# Altium integrated library Altium_WE-CHSA (rev22d).IntLib: 54 symbols (part 1 of 2)
Pins are listed as number, name and electrical type; pins without a type are passive.

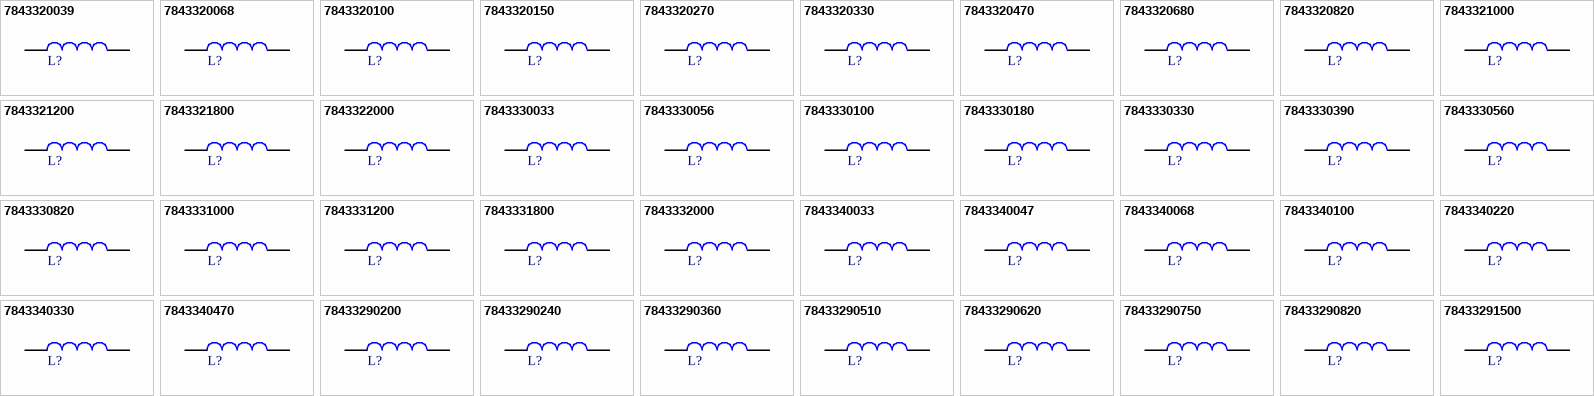
[diagram p0: symbols 7843320039 to 78433291500]

## 7843320039
designator L?, comment 0.39µH, 28A  (value not drawn)
WE-CHSA SMT High Current Inductor, size 1212, 0.39µH, 28A, 1.65mΩ; Manufacturer Part Number: 7843320039; Manufacturer: Wurth Elektronik; Case/Size Code: 1212; DC Resistance: 1.35mΩ; Inductance Tolerance: 20%; Saturation Current: 57A; Self Resonant Frequency: 100MHz; Category: Single Coil Power Inductors; Match Code: WE-CHSA; ComponentLink1Description: Website Link; ComponentLink1URL: https://www.we-online.com/redexpert/article/7843320039?ad; ComponentLink2Description: Datasheet Link; ComponentLink2URL: https://www.we-online.com/redexpert/spec/7843320039?ad; Mount: Surface Mount; Operating Temperature Max: 150°C; Operating Temperature Min: -55°C; Packaging: Tape and Reel; Length: 12.2mm; Width: 12.2mm; Height: 11.75mm; Automotive: Yes; DC Resistance Max: 1.65mΩ; Inductance: 0.39µH; Rated Current: 28A
footprint WE-CHSA_1212
simulation model 1212_7843320039_0.39u
pins: 1, 2

## 7843320068
designator L?, comment 0.68µH, 25.3A  (value not drawn)
WE-CHSA SMT High Current Inductor, size 1212, 0.68µH, 25.3A, 2.05mΩ; Manufacturer Part Number: 7843320068; Manufacturer: Wurth Elektronik; Case/Size Code: 1212; DC Resistance: 1.7mΩ; Inductance Tolerance: 20%; Saturation Current: 41.4A; Self Resonant Frequency: 88MHz; Category: Single Coil Power Inductors; Match Code: WE-CHSA; ComponentLink1Description: Website Link; ComponentLink1URL: https://www.we-online.com/redexpert/article/7843320068?ad; ComponentLink2Description: Datasheet Link; ComponentLink2URL: https://www.we-online.com/redexpert/spec/7843320068?ad; Mount: Surface Mount; Operating Temperature Max: 150°C; Operating Temperature Min: -55°C; Packaging: Tape and Reel; Length: 12.2mm; Width: 12.2mm; Height: 11.75mm; Automotive: Yes; DC Resistance Max: 2.05mΩ; Inductance: 0.68µH; Rated Current: 25.3A
footprint WE-CHSA_1212
simulation model 1212_7843320068_0.68u
pins: 1, 2

## 7843320100
designator L?, comment 1µH, 22.5A  (value not drawn)
WE-CHSA SMT High Current Inductor, size 1212, 1µH, 22.5A, 2.4mΩ; Manufacturer Part Number: 7843320100; Manufacturer: Wurth Elektronik; Case/Size Code: 1212; DC Resistance: 2mΩ; Inductance Tolerance: 20%; Saturation Current: 33.7A; Self Resonant Frequency: 81MHz; Category: Single Coil Power Inductors; Match Code: WE-CHSA; ComponentLink1Description: Website Link; ComponentLink1URL: https://www.we-online.com/redexpert/article/7843320100?ad; ComponentLink2Description: Datasheet Link; ComponentLink2URL: https://www.we-online.com/redexpert/spec/7843320100?ad; Mount: Surface Mount; Operating Temperature Max: 150°C; Operating Temperature Min: -55°C; Packaging: Tape and Reel; Length: 12.2mm; Width: 12.2mm; Height: 11.75mm; Automotive: Yes; DC Resistance Max: 2.4mΩ; Inductance: 1µH; Rated Current: 22.5A
footprint WE-CHSA_1212
simulation model 1212_7843320100_1u
pins: 1, 2

## 7843320150
designator L?, comment 1.5µH, 19.7A  (value not drawn)
WE-CHSA SMT High Current Inductor, size 1212, 1.5µH, 19.7A, 3.3mΩ; Manufacturer Part Number: 7843320150; Manufacturer: Wurth Elektronik; Case/Size Code: 1212; DC Resistance: 2.7mΩ; Inductance Tolerance: 20%; Saturation Current: 28.2A; Self Resonant Frequency: 74MHz; Category: Single Coil Power Inductors; Match Code: WE-CHSA; ComponentLink1Description: Website Link; ComponentLink1URL: https://www.we-online.com/redexpert/article/7843320150?ad; ComponentLink2Description: Datasheet Link; ComponentLink2URL: https://www.we-online.com/redexpert/spec/7843320150?ad; Mount: Surface Mount; Operating Temperature Max: 150°C; Operating Temperature Min: -55°C; Packaging: Tape and Reel; Length: 12.2mm; Width: 12.2mm; Height: 11.75mm; Automotive: Yes; DC Resistance Max: 3.3mΩ; Inductance: 1.5µH; Rated Current: 19.7A
footprint WE-CHSA_1212
simulation model 1212_7843320150_1.5u
pins: 1, 2

## 7843320270
designator L?, comment 2.7µH, 16.2A  (value not drawn)
WE-CHSA SMT High Current Inductor, size 1212, 2.7µH, 16.2A, 4.7mΩ; Manufacturer Part Number: 7843320270; Manufacturer: Wurth Elektronik; Case/Size Code: 1212; DC Resistance: 3.9mΩ; Inductance Tolerance: 20%; Saturation Current: 21.6A; Self Resonant Frequency: 50MHz; Category: Single Coil Power Inductors; Match Code: WE-CHSA; ComponentLink1Description: Website Link; ComponentLink1URL: https://www.we-online.com/redexpert/article/7843320270?ad; ComponentLink2Description: Datasheet Link; ComponentLink2URL: https://www.we-online.com/redexpert/spec/7843320270?ad; Mount: Surface Mount; Operating Temperature Max: 150°C; Operating Temperature Min: -55°C; Packaging: Tape and Reel; Length: 12.2mm; Width: 12.2mm; Height: 11.75mm; Automotive: Yes; DC Resistance Max: 4.7mΩ; Inductance: 2.7µH; Rated Current: 16.2A
footprint WE-CHSA_1212
simulation model 1212_7843320270_2.7u
pins: 1, 2

## 7843320330
designator L?, comment 3.3µH, 13.8A  (value not drawn)
WE-CHSA SMT High Current Inductor, size 1212, 3.3µH, 13.8A, 6.4mΩ; Manufacturer Part Number: 7843320330; Manufacturer: Wurth Elektronik; Case/Size Code: 1212; DC Resistance: 5.3mΩ; Inductance Tolerance: 20%; Saturation Current: 19A; Self Resonant Frequency: 45MHz; Category: Single Coil Power Inductors; Match Code: WE-CHSA; ComponentLink1Description: Website Link; ComponentLink1URL: https://www.we-online.com/redexpert/article/7843320330?ad; ComponentLink2Description: Datasheet Link; ComponentLink2URL: https://www.we-online.com/redexpert/spec/7843320330?ad; Mount: Surface Mount; Operating Temperature Max: 150°C; Operating Temperature Min: -55°C; Packaging: Tape and Reel; Length: 12.2mm; Width: 12.2mm; Height: 11.75mm; Automotive: Yes; DC Resistance Max: 6.4mΩ; Inductance: 3.3µH; Rated Current: 13.8A
footprint WE-CHSA_1212
simulation model 1212_7843320330_3.3u
pins: 1, 2

## 7843320470
designator L?, comment 4.7µH, 12.2A  (value not drawn)
WE-CHSA SMT High Current Inductor, size 1212, 4.7µH, 12.2A, 8.2mΩ; Manufacturer Part Number: 7843320470; Manufacturer: Wurth Elektronik; Case/Size Code: 1212; DC Resistance: 6.85mΩ; Inductance Tolerance: 20%; Saturation Current: 15.3A; Self Resonant Frequency: 37MHz; Category: Single Coil Power Inductors; Match Code: WE-CHSA; ComponentLink1Description: Website Link; ComponentLink1URL: https://www.we-online.com/redexpert/article/7843320470?ad; ComponentLink2Description: Datasheet Link; ComponentLink2URL: https://www.we-online.com/redexpert/spec/7843320470?ad; Mount: Surface Mount; Operating Temperature Max: 150°C; Operating Temperature Min: -55°C; Packaging: Tape and Reel; Length: 12.2mm; Width: 12.2mm; Height: 11.75mm; Automotive: Yes; DC Resistance Max: 8.2mΩ; Inductance: 4.7µH; Rated Current: 12.2A
footprint WE-CHSA_1212
simulation model 1212_7843320470_4.7u
pins: 1, 2

## 7843320680
designator L?, comment 6.8µH, 9.8A  (value not drawn)
WE-CHSA SMT High Current Inductor, size 1212, 6.8µH, 9.8A, 11.9mΩ; Manufacturer Part Number: 7843320680; Manufacturer: Wurth Elektronik; Case/Size Code: 1212; DC Resistance: 9.9mΩ; Inductance Tolerance: 20%; Saturation Current: 13A; Self Resonant Frequency: 34MHz; Category: Single Coil Power Inductors; Match Code: WE-CHSA; ComponentLink1Description: Website Link; ComponentLink1URL: https://www.we-online.com/redexpert/article/7843320680?ad; ComponentLink2Description: Datasheet Link; ComponentLink2URL: https://www.we-online.com/redexpert/spec/7843320680?ad; Mount: Surface Mount; Operating Temperature Max: 150°C; Operating Temperature Min: -55°C; Packaging: Tape and Reel; Length: 12.2mm; Width: 12.2mm; Height: 11.75mm; Automotive: Yes; DC Resistance Max: 11.9mΩ; Inductance: 6.8µH; Rated Current: 9.8A
footprint WE-CHSA_1212
simulation model 1212_7843320680_6.8u
pins: 1, 2

## 7843320820
designator L?, comment 8.2µH, 8.8A  (value not drawn)
WE-CHSA SMT High Current Inductor, size 1212, 8.2µH, 8.8A, 15mΩ; Manufacturer Part Number: 7843320820; Manufacturer: Wurth Elektronik; Case/Size Code: 1212; DC Resistance: 12.45mΩ; Inductance Tolerance: 20%; Saturation Current: 12.1A; Self Resonant Frequency: 30MHz; Category: Single Coil Power Inductors; Match Code: WE-CHSA; ComponentLink1Description: Website Link; ComponentLink1URL: https://www.we-online.com/redexpert/article/7843320820?ad; ComponentLink2Description: Datasheet Link; ComponentLink2URL: https://www.we-online.com/redexpert/spec/7843320820?ad; Mount: Surface Mount; Operating Temperature Max: 150°C; Operating Temperature Min: -55°C; Packaging: Tape and Reel; Length: 12.2mm; Width: 12.2mm; Height: 11.75mm; Automotive: Yes; DC Resistance Max: 15mΩ; Inductance: 8.2µH; Rated Current: 8.8A
footprint WE-CHSA_1212
simulation model 1212_7843320820_8.2u
pins: 1, 2

## 7843321000
designator L?, comment 10µH, 7.8A  (value not drawn)
WE-CHSA SMT High Current Inductor, size 1212, 10µH, 7.8A, 20.35mΩ; Manufacturer Part Number: 7843321000; Manufacturer: Wurth Elektronik; Case/Size Code: 1212; DC Resistance: 16.95mΩ; Inductance Tolerance: 20%; Saturation Current: 10.8A; Self Resonant Frequency: 30MHz; Category: Single Coil Power Inductors; Match Code: WE-CHSA; ComponentLink1Description: Website Link; ComponentLink1URL: https://www.we-online.com/redexpert/article/7843321000?ad; ComponentLink2Description: Datasheet Link; ComponentLink2URL: https://www.we-online.com/redexpert/spec/7843321000?ad; Mount: Surface Mount; Operating Temperature Max: 150°C; Operating Temperature Min: -55°C; Packaging: Tape and Reel; Length: 12.2mm; Width: 12.2mm; Height: 11.75mm; Automotive: Yes; DC Resistance Max: 20.35mΩ; Inductance: 10µH; Rated Current: 7.8A
footprint WE-CHSA_1212
simulation model 1212_7843321000_10u
pins: 1, 2

## 7843321200
designator L?, comment 12µH, 7.1A  (value not drawn)
WE-CHSA SMT High Current Inductor, size 1212, 12µH, 7.1A, 21.5mΩ; Manufacturer Part Number: 7843321200; Manufacturer: Wurth Elektronik; Case/Size Code: 1212; DC Resistance: 17.9mΩ; Inductance Tolerance: 20%; Saturation Current: 10.3A; Self Resonant Frequency: 28MHz; Category: Single Coil Power Inductors; Match Code: WE-CHSA; ComponentLink1Description: Website Link; ComponentLink1URL: https://www.we-online.com/redexpert/article/7843321200?ad; ComponentLink2Description: Datasheet Link; ComponentLink2URL: https://www.we-online.com/redexpert/spec/7843321200?ad; Mount: Surface Mount; Operating Temperature Max: 150°C; Operating Temperature Min: -55°C; Packaging: Tape and Reel; Length: 12.2mm; Width: 12.2mm; Height: 11.75mm; Automotive: Yes; DC Resistance Max: 21.5mΩ; Inductance: 12µH; Rated Current: 7.1A
footprint WE-CHSA_1212
simulation model 1212_7843321200_12u
pins: 1, 2

## 7843321800
designator L?, comment 18µH, 5.5A  (value not drawn)
WE-CHSA SMT High Current Inductor, size 1212, 18µH, 5.5A, 38.4mΩ; Manufacturer Part Number: 7843321800; Manufacturer: Wurth Elektronik; Case/Size Code: 1212; DC Resistance: 32mΩ; Inductance Tolerance: 20%; Saturation Current: 7.7A; Self Resonant Frequency: 21MHz; Category: Single Coil Power Inductors; Match Code: WE-CHSA; ComponentLink1Description: Website Link; ComponentLink1URL: https://www.we-online.com/redexpert/article/7843321800?ad; ComponentLink2Description: Datasheet Link; ComponentLink2URL: https://www.we-online.com/redexpert/spec/7843321800?ad; Mount: Surface Mount; Operating Temperature Max: 150°C; Operating Temperature Min: -55°C; Packaging: Tape and Reel; Length: 12.2mm; Width: 12.2mm; Height: 11.75mm; Automotive: Yes; DC Resistance Max: 38.4mΩ; Inductance: 18µH; Rated Current: 5.5A
footprint WE-CHSA_1212
simulation model 1212_7843321800_18u
pins: 1, 2

## 7843322000
designator L?, comment 20µH, 5.4A  (value not drawn)
WE-CHSA SMT High Current Inductor, size 1212, 20µH, 5.4A, 43.1mΩ; Manufacturer Part Number: 7843322000; Manufacturer: Wurth Elektronik; Case/Size Code: 1212; DC Resistance: 35.9mΩ; Inductance Tolerance: 20%; Saturation Current: 7A; Self Resonant Frequency: 19MHz; Category: Single Coil Power Inductors; Match Code: WE-CHSA; ComponentLink1Description: Website Link; ComponentLink1URL: https://www.we-online.com/redexpert/article/7843322000?ad; ComponentLink2Description: Datasheet Link; ComponentLink2URL: https://www.we-online.com/redexpert/spec/7843322000?ad; Mount: Surface Mount; Operating Temperature Max: 150°C; Operating Temperature Min: -55°C; Packaging: Tape and Reel; Length: 12.2mm; Width: 12.2mm; Height: 11.75mm; Automotive: Yes; DC Resistance Max: 43.1mΩ; Inductance: 20µH; Rated Current: 5.4A
footprint WE-CHSA_1212
simulation model 1212_7843322000_20u
pins: 1, 2

## 7843330033
designator L?, comment 0.33µH, 26A  (value not drawn)
WE-CHSA SMT High Current Inductor, size 1011, 0.33µH, 26A, 1.7mΩ; Manufacturer Part Number: 7843330033; Manufacturer: Wurth Elektronik; Case/Size Code: 1011; DC Resistance: 1.4mΩ; Inductance Tolerance: 20%; Saturation Current: 54.5A; Self Resonant Frequency: 230MHz; Category: Single Coil Power Inductors; Match Code: WE-CHSA; ComponentLink1Description: Website Link; ComponentLink1URL: https://www.we-online.com/redexpert/article/7843330033?ad; ComponentLink2Description: Datasheet Link; ComponentLink2URL: https://www.we-online.com/redexpert/spec/7843330033?ad; Mount: Surface Mount; Operating Temperature Max: 150°C; Operating Temperature Min: -55°C; Packaging: Tape and Reel; Length: 10.6mm; Width: 10.6mm; Height: 11mm; Automotive: Yes; DC Resistance Max: 1.7mΩ; Inductance: 0.33µH; Rated Current: 26A
footprint WE-CHSA_1011
simulation model 1011_7843330033_0.33u
pins: 1, 2

## 7843330056
designator L?, comment 0.56µH, 23.5A  (value not drawn)
WE-CHSA SMT High Current Inductor, size 1011, 0.56µH, 23.5A, 2.05mΩ; Manufacturer Part Number: 7843330056; Manufacturer: Wurth Elektronik; Case/Size Code: 1011; DC Resistance: 1.7mΩ; Inductance Tolerance: 20%; Saturation Current: 43.4A; Self Resonant Frequency: 100MHz; Category: Single Coil Power Inductors; Match Code: WE-CHSA; ComponentLink1Description: Website Link; ComponentLink1URL: https://www.we-online.com/redexpert/article/7843330056?ad; ComponentLink2Description: Datasheet Link; ComponentLink2URL: https://www.we-online.com/redexpert/spec/7843330056?ad; Mount: Surface Mount; Operating Temperature Max: 150°C; Operating Temperature Min: -55°C; Packaging: Tape and Reel; Length: 10.6mm; Width: 10.6mm; Height: 11mm; Automotive: Yes; DC Resistance Max: 2.05mΩ; Inductance: 0.56µH; Rated Current: 23.5A
footprint WE-CHSA_1011
simulation model 1011_7843330056_0.56u
pins: 1, 2

## 7843330100
designator L?, comment 1µH, 20.3A  (value not drawn)
WE-CHSA SMT High Current Inductor, size 1011, 1µH, 20.3A, 2.9mΩ; Manufacturer Part Number: 7843330100; Manufacturer: Wurth Elektronik; Case/Size Code: 1011; DC Resistance: 2.4mΩ; Inductance Tolerance: 20%; Saturation Current: 34.8A; Self Resonant Frequency: 88MHz; Category: Single Coil Power Inductors; Match Code: WE-CHSA; ComponentLink1Description: Website Link; ComponentLink1URL: https://www.we-online.com/redexpert/article/7843330100?ad; ComponentLink2Description: Datasheet Link; ComponentLink2URL: https://www.we-online.com/redexpert/spec/7843330100?ad; Mount: Surface Mount; Operating Temperature Max: 150°C; Operating Temperature Min: -55°C; Packaging: Tape and Reel; Length: 10.6mm; Width: 10.6mm; Height: 11mm; Automotive: Yes; DC Resistance Max: 2.9mΩ; Inductance: 1µH; Rated Current: 20.3A
footprint WE-CHSA_1011
simulation model 1011_7843330100_1u
pins: 1, 2

## 7843330180
designator L?, comment 1.8µH, 16A  (value not drawn)
WE-CHSA SMT High Current Inductor, size 1011, 1.8µH, 16A, 4.7mΩ; Manufacturer Part Number: 7843330180; Manufacturer: Wurth Elektronik; Case/Size Code: 1011; DC Resistance: 3.9mΩ; Inductance Tolerance: 20%; Saturation Current: 25.9A; Self Resonant Frequency: 67MHz; Category: Single Coil Power Inductors; Match Code: WE-CHSA; ComponentLink1Description: Website Link; ComponentLink1URL: https://www.we-online.com/redexpert/article/7843330180?ad; ComponentLink2Description: Datasheet Link; ComponentLink2URL: https://www.we-online.com/redexpert/spec/7843330180?ad; Mount: Surface Mount; Operating Temperature Max: 150°C; Operating Temperature Min: -55°C; Packaging: Tape and Reel; Length: 10.6mm; Width: 10.6mm; Height: 11mm; Automotive: Yes; DC Resistance Max: 4.7mΩ; Inductance: 1.8µH; Rated Current: 16A
footprint WE-CHSA_1011
simulation model 1011_7843330180_1.8u
pins: 1, 2

## 7843330330
designator L?, comment 3.3µH, 13.8A  (value not drawn)
WE-CHSA SMT High Current Inductor, size 1011, 3.3µH, 13.8A, 6.5mΩ; Manufacturer Part Number: 7843330330; Manufacturer: Wurth Elektronik; Case/Size Code: 1011; DC Resistance: 5.4mΩ; Inductance Tolerance: 20%; Saturation Current: 20.5A; Self Resonant Frequency: 55MHz; Category: Single Coil Power Inductors; Match Code: WE-CHSA; ComponentLink1Description: Website Link; ComponentLink1URL: https://www.we-online.com/redexpert/article/7843330330?ad; ComponentLink2Description: Datasheet Link; ComponentLink2URL: https://www.we-online.com/redexpert/spec/7843330330?ad; Mount: Surface Mount; Operating Temperature Max: 150°C; Operating Temperature Min: -55°C; Packaging: Tape and Reel; Length: 10.6mm; Width: 10.6mm; Height: 11mm; Automotive: Yes; DC Resistance Max: 6.5mΩ; Inductance: 3.3µH; Rated Current: 13.8A
footprint WE-CHSA_1011
simulation model 1011_7843330330_3.3u
pins: 1, 2

## 7843330390
designator L?, comment 3.9µH, 11.2A  (value not drawn)
WE-CHSA SMT High Current Inductor, size 1011, 3.9µH, 11.2A, 8.7mΩ; Manufacturer Part Number: 7843330390; Manufacturer: Wurth Elektronik; Case/Size Code: 1011; DC Resistance: 7.25mΩ; Inductance Tolerance: 20%; Saturation Current: 17.8A; Self Resonant Frequency: 50MHz; Category: Single Coil Power Inductors; Match Code: WE-CHSA; ComponentLink1Description: Website Link; ComponentLink1URL: https://www.we-online.com/redexpert/article/7843330390?ad; ComponentLink2Description: Datasheet Link; ComponentLink2URL: https://www.we-online.com/redexpert/spec/7843330390?ad; Mount: Surface Mount; Operating Temperature Max: 150°C; Operating Temperature Min: -55°C; Packaging: Tape and Reel; Length: 10.6mm; Width: 10.6mm; Height: 11mm; Automotive: Yes; DC Resistance Max: 8.7mΩ; Inductance: 3.9µH; Rated Current: 11.2A
footprint WE-CHSA_1011
simulation model 1011_7843330390_3.9u
pins: 1, 2

## 7843330560
designator L?, comment 5.6µH, 9.2A  (value not drawn)
WE-CHSA SMT High Current Inductor, size 1011, 5.6µH, 9.2A, 13mΩ; Manufacturer Part Number: 7843330560; Manufacturer: Wurth Elektronik; Case/Size Code: 1011; DC Resistance: 10.85mΩ; Inductance Tolerance: 20%; Saturation Current: 14.9A; Self Resonant Frequency: 41MHz; Category: Single Coil Power Inductors; Match Code: WE-CHSA; ComponentLink1Description: Website Link; ComponentLink1URL: https://www.we-online.com/redexpert/article/7843330560?ad; ComponentLink2Description: Datasheet Link; ComponentLink2URL: https://www.we-online.com/redexpert/spec/7843330560?ad; Mount: Surface Mount; Operating Temperature Max: 150°C; Operating Temperature Min: -55°C; Packaging: Tape and Reel; Length: 10.6mm; Width: 10.6mm; Height: 11mm; Automotive: Yes; DC Resistance Max: 13mΩ; Inductance: 5.6µH; Rated Current: 9.2A
footprint WE-CHSA_1011
simulation model 1011_7843330560_5.6u
pins: 1, 2

## 7843330820
designator L?, comment 8.2µH, 7.2A  (value not drawn)
WE-CHSA SMT High Current Inductor, size 1011, 8.2µH, 7.2A, 19.1mΩ; Manufacturer Part Number: 7843330820; Manufacturer: Wurth Elektronik; Case/Size Code: 1011; DC Resistance: 15.9mΩ; Inductance Tolerance: 20%; Saturation Current: 12.8A; Self Resonant Frequency: 34MHz; Category: Single Coil Power Inductors; Match Code: WE-CHSA; ComponentLink1Description: Website Link; ComponentLink1URL: https://www.we-online.com/redexpert/article/7843330820?ad; ComponentLink2Description: Datasheet Link; ComponentLink2URL: https://www.we-online.com/redexpert/spec/7843330820?ad; Mount: Surface Mount; Operating Temperature Max: 150°C; Operating Temperature Min: -55°C; Packaging: Tape and Reel; Length: 10.6mm; Width: 10.6mm; Height: 11mm; Automotive: Yes; DC Resistance Max: 19.1mΩ; Inductance: 8.2µH; Rated Current: 7.2A
footprint WE-CHSA_1011
simulation model 1011_7843330820_8.2u
pins: 1, 2

## 7843331000
designator L?, comment 10µH, 6.7A  (value not drawn)
WE-CHSA SMT High Current Inductor, size 1011, 10µH, 6.7A, 25.8mΩ; Manufacturer Part Number: 7843331000; Manufacturer: Wurth Elektronik; Case/Size Code: 1011; DC Resistance: 21.5mΩ; Inductance Tolerance: 20%; Saturation Current: 10.7A; Self Resonant Frequency: 30MHz; Category: Single Coil Power Inductors; Match Code: WE-CHSA; ComponentLink1Description: Website Link; ComponentLink1URL: https://www.we-online.com/redexpert/article/7843331000?ad; ComponentLink2Description: Datasheet Link; ComponentLink2URL: https://www.we-online.com/redexpert/spec/7843331000?ad; Mount: Surface Mount; Operating Temperature Max: 150°C; Operating Temperature Min: -55°C; Packaging: Tape and Reel; Length: 10.6mm; Width: 10.6mm; Height: 11mm; Automotive: Yes; DC Resistance Max: 25.8mΩ; Inductance: 10µH; Rated Current: 6.7A
footprint WE-CHSA_1011
simulation model 1011_7843331000_10u
pins: 1, 2

## 7843331200
designator L?, comment 12µH, 5.6A  (value not drawn)
WE-CHSA SMT High Current Inductor, size 1011, 12µH, 5.6A, 33.2mΩ; Manufacturer Part Number: 7843331200; Manufacturer: Wurth Elektronik; Case/Size Code: 1011; DC Resistance: 27.7mΩ; Inductance Tolerance: 20%; Saturation Current: 9.1A; Self Resonant Frequency: 28MHz; Category: Single Coil Power Inductors; Match Code: WE-CHSA; ComponentLink1Description: Website Link; ComponentLink1URL: https://www.we-online.com/redexpert/article/7843331200?ad; ComponentLink2Description: Datasheet Link; ComponentLink2URL: https://www.we-online.com/redexpert/spec/7843331200?ad; Mount: Surface Mount; Operating Temperature Max: 150°C; Operating Temperature Min: -55°C; Packaging: Tape and Reel; Length: 10.6mm; Width: 10.6mm; Height: 11mm; Automotive: Yes; DC Resistance Max: 33.2mΩ; Inductance: 12µH; Rated Current: 5.6A
footprint WE-CHSA_1011
simulation model 1011_7843331200_12u
pins: 1, 2

## 7843331800
designator L?, comment 18µH, 5.1A  (value not drawn)
WE-CHSA SMT High Current Inductor, size 1011, 18µH, 5.1A, 41.1mΩ; Manufacturer Part Number: 7843331800; Manufacturer: Wurth Elektronik; Case/Size Code: 1011; DC Resistance: 34.25mΩ; Inductance Tolerance: 20%; Saturation Current: 8.5A; Self Resonant Frequency: 19MHz; Category: Single Coil Power Inductors; Match Code: WE-CHSA; ComponentLink1Description: Website Link; ComponentLink1URL: https://www.we-online.com/redexpert/article/7843331800?ad; ComponentLink2Description: Datasheet Link; ComponentLink2URL: https://www.we-online.com/redexpert/spec/7843331800?ad; Mount: Surface Mount; Operating Temperature Max: 150°C; Operating Temperature Min: -55°C; Packaging: Tape and Reel; Length: 10.6mm; Width: 10.6mm; Height: 11mm; Automotive: Yes; DC Resistance Max: 41.1mΩ; Inductance: 18µH; Rated Current: 5.1A
footprint WE-CHSA_1011
simulation model 1011_7843331800_18u
pins: 1, 2

## 7843332000
designator L?, comment 20µH, 4.3A  (value not drawn)
WE-CHSA SMT High Current Inductor, size 1011, 20µH, 4.3A, 60.9mΩ; Manufacturer Part Number: 7843332000; Manufacturer: Wurth Elektronik; Case/Size Code: 1011; DC Resistance: 50.8mΩ; Inductance Tolerance: 20%; Saturation Current: 7A; Self Resonant Frequency: 20MHz; Category: Single Coil Power Inductors; Match Code: WE-CHSA; ComponentLink1Description: Website Link; ComponentLink1URL: https://www.we-online.com/redexpert/article/7843332000?ad; ComponentLink2Description: Datasheet Link; ComponentLink2URL: https://www.we-online.com/redexpert/spec/7843332000?ad; Mount: Surface Mount; Operating Temperature Max: 150°C; Operating Temperature Min: -55°C; Packaging: Tape and Reel; Length: 10.6mm; Width: 10.6mm; Height: 11mm; Automotive: Yes; DC Resistance Max: 60.9mΩ; Inductance: 20µH; Rated Current: 4.3A
footprint WE-CHSA_1011
simulation model 1011_7843332000_20u
pins: 1, 2

## 7843340033
designator L?, comment 0.33µH, 21A  (value not drawn)
WE-CHSA SMT High Current Inductor, size 8090, 0.33µH, 21A, 2.1mΩ; Manufacturer Part Number: 7843340033; Manufacturer: Wurth Elektronik; Case/Size Code: 8090; DC Resistance: 1.75mΩ; Inductance Tolerance: 20%; Saturation Current: 36A; Self Resonant Frequency: 196MHz; Category: Single Coil Power Inductors; Match Code: WE-CHSA; ComponentLink1Description: Website Link; ComponentLink1URL: https://www.we-online.com/redexpert/article/7843340033?ad; ComponentLink2Description: Datasheet Link; ComponentLink2URL: https://www.we-online.com/redexpert/spec/7843340033?ad; Mount: Surface Mount; Operating Temperature Max: 150°C; Operating Temperature Min: -55°C; Packaging: Tape and Reel; Length: 8.1mm; Width: 8.1mm; Height: 9mm; Automotive: Yes; DC Resistance Max: 2.1mΩ; Inductance: 0.33µH; Rated Current: 21A
footprint WE-CHSA_8090
simulation model 8090_7843340033_0.33u
pins: 1, 2

## 7843340047
designator L?, comment 0.47µH, 19A  (value not drawn)
WE-CHSA SMT High Current Inductor, size 8090, 0.47µH, 19A, 2.8mΩ; Manufacturer Part Number: 7843340047; Manufacturer: Wurth Elektronik; Case/Size Code: 8090; DC Resistance: 2.3mΩ; Inductance Tolerance: 20%; Saturation Current: 29.7A; Self Resonant Frequency: 146MHz; Category: Single Coil Power Inductors; Match Code: WE-CHSA; ComponentLink1Description: Website Link; ComponentLink1URL: https://www.we-online.com/redexpert/article/7843340047?ad; ComponentLink2Description: Datasheet Link; ComponentLink2URL: https://www.we-online.com/redexpert/spec/7843340047?ad; Mount: Surface Mount; Operating Temperature Max: 150°C; Operating Temperature Min: -55°C; Packaging: Tape and Reel; Length: 8.1mm; Width: 8.1mm; Height: 9mm; Automotive: Yes; DC Resistance Max: 2.8mΩ; Inductance: 0.47µH; Rated Current: 19A
footprint WE-CHSA_8090
simulation model 8090_7843340047_0.47u
pins: 1, 2

## 7843340068
designator L?, comment 0.68µH, 15.6A  (value not drawn)
WE-CHSA SMT High Current Inductor, size 8090, 0.68µH, 15.6A, 4.1mΩ; Manufacturer Part Number: 7843340068; Manufacturer: Wurth Elektronik; Case/Size Code: 8090; DC Resistance: 3.45mΩ; Inductance Tolerance: 20%; Saturation Current: 24.8A; Self Resonant Frequency: 132MHz; Category: Single Coil Power Inductors; Match Code: WE-CHSA; ComponentLink1Description: Website Link; ComponentLink1URL: https://www.we-online.com/redexpert/article/7843340068?ad; ComponentLink2Description: Datasheet Link; ComponentLink2URL: https://www.we-online.com/redexpert/spec/7843340068?ad; Mount: Surface Mount; Operating Temperature Max: 150°C; Operating Temperature Min: -55°C; Packaging: Tape and Reel; Length: 8.1mm; Width: 8.1mm; Height: 9mm; Automotive: Yes; DC Resistance Max: 4.1mΩ; Inductance: 0.68µH; Rated Current: 15.6A
footprint WE-CHSA_8090
simulation model 8090_7843340068_0.68u
pins: 1, 2

## 7843340100
designator L?, comment 1µH, 12.8A  (value not drawn)
WE-CHSA SMT High Current Inductor, size 8090, 1µH, 12.8A, 5.9mΩ; Manufacturer Part Number: 7843340100; Manufacturer: Wurth Elektronik; Case/Size Code: 8090; DC Resistance: 4.9mΩ; Inductance Tolerance: 20%; Saturation Current: 21.3A; Self Resonant Frequency: 100MHz; Category: Single Coil Power Inductors; Match Code: WE-CHSA; ComponentLink1Description: Website Link; ComponentLink1URL: https://www.we-online.com/redexpert/article/7843340100?ad; ComponentLink2Description: Datasheet Link; ComponentLink2URL: https://www.we-online.com/redexpert/spec/7843340100?ad; Mount: Surface Mount; Operating Temperature Max: 150°C; Operating Temperature Min: -55°C; Packaging: Tape and Reel; Length: 8.1mm; Width: 8.1mm; Height: 9mm; Automotive: Yes; DC Resistance Max: 5.9mΩ; Inductance: 1µH; Rated Current: 12.8A
footprint WE-CHSA_8090
simulation model 8090_7843340100_1u
pins: 1, 2

## 7843340220
designator L?, comment 2.2µH, 8.4A  (value not drawn)
WE-CHSA SMT High Current Inductor, size 8090, 2.2µH, 8.4A, 12mΩ; Manufacturer Part Number: 7843340220; Manufacturer: Wurth Elektronik; Case/Size Code: 8090; DC Resistance: 10mΩ; Inductance Tolerance: 20%; Saturation Current: 14.7A; Self Resonant Frequency: 80MHz; Category: Single Coil Power Inductors; Match Code: WE-CHSA; ComponentLink1Description: Website Link; ComponentLink1URL: https://www.we-online.com/redexpert/article/7843340220?ad; ComponentLink2Description: Datasheet Link; ComponentLink2URL: https://www.we-online.com/redexpert/spec/7843340220?ad; Mount: Surface Mount; Operating Temperature Max: 150°C; Operating Temperature Min: -55°C; Packaging: Tape and Reel; Length: 8.1mm; Width: 8.1mm; Height: 9mm; Automotive: Yes; DC Resistance Max: 12mΩ; Inductance: 2.2µH; Rated Current: 8.4A
footprint WE-CHSA_8090
simulation model 8090_7843340220_2.2u
pins: 1, 2

## 7843340330
designator L?, comment 3.3µH, 6.8A  (value not drawn)
WE-CHSA SMT High Current Inductor, size 8090, 3.3µH, 6.8A, 18.4mΩ; Manufacturer Part Number: 7843340330; Manufacturer: Wurth Elektronik; Case/Size Code: 8090; DC Resistance: 15.35mΩ; Inductance Tolerance: 20%; Saturation Current: 12.3A; Self Resonant Frequency: 67MHz; Category: Single Coil Power Inductors; Match Code: WE-CHSA; ComponentLink1Description: Website Link; ComponentLink1URL: https://www.we-online.com/redexpert/article/7843340330?ad; ComponentLink2Description: Datasheet Link; ComponentLink2URL: https://www.we-online.com/redexpert/spec/7843340330?ad; Mount: Surface Mount; Operating Temperature Max: 150°C; Operating Temperature Min: -55°C; Packaging: Tape and Reel; Length: 8.1mm; Width: 8.1mm; Height: 9mm; Automotive: Yes; DC Resistance Max: 18.4mΩ; Inductance: 3.3µH; Rated Current: 6.8A
footprint WE-CHSA_8090
simulation model 8090_7843340330_3.3u
pins: 1, 2

## 7843340470
designator L?, comment 4.7µH, 5A  (value not drawn)
WE-CHSA SMT High Current Inductor, size 8090, 4.7µH, 5A, 28.9mΩ; Manufacturer Part Number: 7843340470; Manufacturer: Wurth Elektronik; Case/Size Code: 8090; DC Resistance: 24.1mΩ; Inductance Tolerance: 20%; Saturation Current: 9.6A; Self Resonant Frequency: 50MHz; Category: Single Coil Power Inductors; Match Code: WE-CHSA; ComponentLink1Description: Website Link; ComponentLink1URL: https://www.we-online.com/redexpert/article/7843340470?ad; ComponentLink2Description: Datasheet Link; ComponentLink2URL: https://www.we-online.com/redexpert/spec/7843340470?ad; Mount: Surface Mount; Operating Temperature Max: 150°C; Operating Temperature Min: -55°C; Packaging: Tape and Reel; Length: 8.1mm; Width: 8.1mm; Height: 9mm; Automotive: Yes; DC Resistance Max: 28.9mΩ; Inductance: 4.7µH; Rated Current: 5A
footprint WE-CHSA_8090
simulation model 8090_7843340470_4.7u
pins: 1, 2

## 78433290200
designator L?, comment 2µH, 16.2A  (value not drawn)
WE-CHSA P Performance SMT High Current Inductor, size 1212, 2µH, 16.2A, 4.7mΩ; Manufacturer Part Number: 78433290200; Manufacturer: Wurth Elektronik; Case/Size Code: 1212; DC Resistance: 3.9mΩ; Inductance Tolerance: 20%; Saturation Current: 29A; Self Resonant Frequency: 64MHz; Category: Single Coil Power Inductors; Match Code: WE-CHSA; ComponentLink1Description: Website Link; ComponentLink1URL: https://www.we-online.com/redexpert/article/78433290200?ad; ComponentLink2Description: Datasheet Link; ComponentLink2URL: https://www.we-online.com/redexpert/spec/78433290200?ad; Mount: Surface Mount; Operating Temperature Max: 150°C; Operating Temperature Min: -55°C; Packaging: Tape and Reel; Length: 12.2mm; Width: 12.2mm; Height: 11.75mm; Automotive: Yes; DC Resistance Max: 4.7mΩ; Inductance: 2µH; Rated Current: 16.2A
footprint WE-CHSA_1212
simulation model 1212_78433290200_2u
pins: 1, 2

## 78433290240
designator L?, comment 2.4µH, 13.8A  (value not drawn)
WE-CHSA P Performance SMT High Current Inductor, size 1212, 2.4µH, 13.8A, 6.4mΩ; Manufacturer Part Number: 78433290240; Manufacturer: Wurth Elektronik; Case/Size Code: 1212; DC Resistance: 5.3mΩ; Inductance Tolerance: 20%; Saturation Current: 24.8A; Self Resonant Frequency: 60MHz; Category: Single Coil Power Inductors; Match Code: WE-CHSA; ComponentLink1Description: Website Link; ComponentLink1URL: https://www.we-online.com/redexpert/article/78433290240?ad; ComponentLink2Description: Datasheet Link; ComponentLink2URL: https://www.we-online.com/redexpert/spec/78433290240?ad; Mount: Surface Mount; Operating Temperature Max: 150°C; Operating Temperature Min: -55°C; Packaging: Tape and Reel; Length: 12.2mm; Width: 12.2mm; Height: 11.75mm; Automotive: Yes; DC Resistance Max: 6.4mΩ; Inductance: 2.4µH; Rated Current: 13.8A
footprint WE-CHSA_1212
simulation model 1212_78433290240_2.4u
pins: 1, 2

## 78433290360
designator L?, comment 3.6µH, 12.2A  (value not drawn)
WE-CHSA P Performance SMT High Current Inductor, size 1212, 3.6µH, 12.2A, 8.2mΩ; Manufacturer Part Number: 78433290360; Manufacturer: Wurth Elektronik; Case/Size Code: 1212; DC Resistance: 6.85mΩ; Inductance Tolerance: 20%; Saturation Current: 20.6A; Self Resonant Frequency: 48MHz; Category: Single Coil Power Inductors; Match Code: WE-CHSA; ComponentLink1Description: Website Link; ComponentLink1URL: https://www.we-online.com/redexpert/article/78433290360?ad; ComponentLink2Description: Datasheet Link; ComponentLink2URL: https://www.we-online.com/redexpert/spec/78433290360?ad; Mount: Surface Mount; Operating Temperature Max: 150°C; Operating Temperature Min: -55°C; Packaging: Tape and Reel; Length: 12.2mm; Width: 12.2mm; Height: 11.75mm; Automotive: Yes; DC Resistance Max: 8.2mΩ; Inductance: 3.6µH; Rated Current: 12.2A
footprint WE-CHSA_1212
simulation model 1212_78433290360_3.6u
pins: 1, 2

## 78433290510
designator L?, comment 5.1µH, 9.8A  (value not drawn)
WE-CHSA P Performance SMT High Current Inductor, size 1212, 5.1µH, 9.8A, 11.9mΩ; Manufacturer Part Number: 78433290510; Manufacturer: Wurth Elektronik; Case/Size Code: 1212; DC Resistance: 9.9mΩ; Inductance Tolerance: 20%; Saturation Current: 17A; Self Resonant Frequency: 40MHz; Category: Single Coil Power Inductors; Match Code: WE-CHSA; ComponentLink1Description: Website Link; ComponentLink1URL: https://www.we-online.com/redexpert/article/78433290510?ad; ComponentLink2Description: Datasheet Link; ComponentLink2URL: https://www.we-online.com/redexpert/spec/78433290510?ad; Mount: Surface Mount; Operating Temperature Max: 150°C; Operating Temperature Min: -55°C; Packaging: Tape and Reel; Length: 12.2mm; Width: 12.2mm; Height: 11.75mm; Automotive: Yes; DC Resistance Max: 11.9mΩ; Inductance: 5.1µH; Rated Current: 9.8A
footprint WE-CHSA_1212
simulation model 1212_78433290510_5.1u
pins: 1, 2

## 78433290620
designator L?, comment 6.2µH, 8.8A  (value not drawn)
WE-CHSA P Performance SMT High Current Inductor, size 1212, 6.2µH, 8.8A, 15mΩ; Manufacturer Part Number: 78433290620; Manufacturer: Wurth Elektronik; Case/Size Code: 1212; DC Resistance: 12.45mΩ; Inductance Tolerance: 20%; Saturation Current: 16A; Self Resonant Frequency: 37MHz; Category: Single Coil Power Inductors; Match Code: WE-CHSA; ComponentLink1Description: Website Link; ComponentLink1URL: https://www.we-online.com/redexpert/article/78433290620?ad; ComponentLink2Description: Datasheet Link; ComponentLink2URL: https://www.we-online.com/redexpert/spec/78433290620?ad; Mount: Surface Mount; Operating Temperature Max: 150°C; Operating Temperature Min: -55°C; Packaging: Tape and Reel; Length: 12.2mm; Width: 12.2mm; Height: 11.75mm; Automotive: Yes; DC Resistance Max: 15mΩ; Inductance: 6.2µH; Rated Current: 8.8A
footprint WE-CHSA_1212
simulation model 1212_78433290620_6.2u
pins: 1, 2

## 78433290750
designator L?, comment 7.5µH, 7.8A  (value not drawn)
WE-CHSA P Performance SMT High Current Inductor, size 1212, 7.5µH, 7.8A, 20.35mΩ; Manufacturer Part Number: 78433290750; Manufacturer: Wurth Elektronik; Case/Size Code: 1212; DC Resistance: 16.95mΩ; Inductance Tolerance: 20%; Saturation Current: 14.6A; Self Resonant Frequency: 34MHz; Category: Single Coil Power Inductors; Match Code: WE-CHSA; ComponentLink1Description: Website Link; ComponentLink1URL: https://www.we-online.com/redexpert/article/78433290750?ad; ComponentLink2Description: Datasheet Link; ComponentLink2URL: https://www.we-online.com/redexpert/spec/78433290750?ad; Mount: Surface Mount; Operating Temperature Max: 150°C; Operating Temperature Min: -55°C; Packaging: Tape and Reel; Length: 12.2mm; Width: 12.2mm; Height: 11.75mm; Automotive: Yes; DC Resistance Max: 20.35mΩ; Inductance: 7.5µH; Rated Current: 7.8A
footprint WE-CHSA_1212
simulation model 1212_78433290750_7.5u
pins: 1, 2

## 78433290820
designator L?, comment 8.2µH, 7.1A  (value not drawn)
WE-CHSA P Performance SMT High Current Inductor, size 1212, 8.2µH, 7.1A, 21.5mΩ; Manufacturer Part Number: 78433290820; Manufacturer: Wurth Elektronik; Case/Size Code: 1212; DC Resistance: 17.9mΩ; Inductance Tolerance: 20%; Saturation Current: 13.7A; Self Resonant Frequency: 32MHz; Category: Single Coil Power Inductors; Match Code: WE-CHSA; ComponentLink1Description: Website Link; ComponentLink1URL: https://www.we-online.com/redexpert/article/78433290820?ad; ComponentLink2Description: Datasheet Link; ComponentLink2URL: https://www.we-online.com/redexpert/spec/78433290820?ad; Mount: Surface Mount; Operating Temperature Max: 150°C; Operating Temperature Min: -55°C; Packaging: Tape and Reel; Length: 12.2mm; Width: 12.2mm; Height: 11.75mm; Automotive: Yes; DC Resistance Max: 21.5mΩ; Inductance: 8.2µH; Rated Current: 7.1A
footprint WE-CHSA_1212
simulation model 1212_78433290820_8.2u
pins: 1, 2

## 78433291500
designator L?, comment 15µH, 5.4A  (value not drawn)
WE-CHSA P Performance SMT High Current Inductor, size 1212, 15µH, 5.4A, 43.1mΩ; Manufacturer Part Number: 78433291500; Manufacturer: Wurth Elektronik; Case/Size Code: 1212; DC Resistance: 35.9mΩ; Inductance Tolerance: 20%; Saturation Current: 9.8A; Self Resonant Frequency: 23MHz; Category: Single Coil Power Inductors; Match Code: WE-CHSA; ComponentLink1Description: Website Link; ComponentLink1URL: https://www.we-online.com/redexpert/article/78433291500?ad; ComponentLink2Description: Datasheet Link; ComponentLink2URL: https://www.we-online.com/redexpert/spec/78433291500?ad; Mount: Surface Mount; Operating Temperature Max: 150°C; Operating Temperature Min: -55°C; Packaging: Tape and Reel; Length: 12.2mm; Width: 12.2mm; Height: 11.75mm; Automotive: Yes; DC Resistance Max: 43.1mΩ; Inductance: 15µH; Rated Current: 5.4A
footprint WE-CHSA_1212
simulation model 1212_78433291500_15u
pins: 1, 2

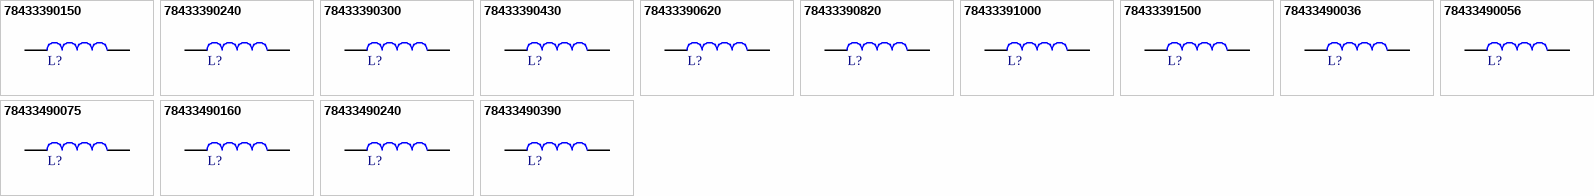
[diagram p1: symbols 78433390150 to 78433490390]

## 78433390150
designator L?, comment 1.5µH, 16A  (value not drawn)
WE-CHSA P Performance SMT High Current Inductor, size 1011, 1.5µH, 16A, 4.7mΩ; Manufacturer Part Number: 78433390150; Manufacturer: Wurth Elektronik; Case/Size Code: 1011; DC Resistance: 3.9mΩ; Inductance Tolerance: 20%; Saturation Current: 37.4A; Self Resonant Frequency: 67MHz; Category: Single Coil Power Inductors; Match Code: WE-CHSA; ComponentLink1Description: Website Link; ComponentLink1URL: https://www.we-online.com/redexpert/article/78433390150?ad; ComponentLink2Description: Datasheet Link; ComponentLink2URL: https://www.we-online.com/redexpert/spec/78433390150?ad; Mount: Surface Mount; Operating Temperature Max: 150°C; Operating Temperature Min: -55°C; Packaging: Tape and Reel; Length: 10.6mm; Width: 10.6mm; Height: 11mm; Automotive: Yes; DC Resistance Max: 4.7mΩ; Inductance: 1.5µH; Rated Current: 16A
footprint WE-CHSA_1011
simulation model 1011_78433390150_1.5u
pins: 1, 2

## 78433390240
designator L?, comment 2.4µH, 13.8A  (value not drawn)
WE-CHSA P Performance SMT High Current Inductor, size 1011, 2.4µH, 13.8A, 6.5mΩ; Manufacturer Part Number: 78433390240; Manufacturer: Wurth Elektronik; Case/Size Code: 1011; DC Resistance: 5.4mΩ; Inductance Tolerance: 20%; Saturation Current: 28.7A; Self Resonant Frequency: 55MHz; Category: Single Coil Power Inductors; Match Code: WE-CHSA; ComponentLink1Description: Website Link; ComponentLink1URL: https://www.we-online.com/redexpert/article/78433390240?ad; ComponentLink2Description: Datasheet Link; ComponentLink2URL: https://www.we-online.com/redexpert/spec/78433390240?ad; Mount: Surface Mount; Operating Temperature Max: 150°C; Operating Temperature Min: -55°C; Packaging: Tape and Reel; Length: 10.6mm; Width: 10.6mm; Height: 11mm; Automotive: Yes; DC Resistance Max: 6.5mΩ; Inductance: 2.4µH; Rated Current: 13.8A
footprint WE-CHSA_1011
simulation model 1011_78433390240_2.4u
pins: 1, 2

## 78433390300
designator L?, comment 3µH, 11.2A  (value not drawn)
WE-CHSA P Performance SMT High Current Inductor, size 1011, 3µH, 11.2A, 8.7mΩ; Manufacturer Part Number: 78433390300; Manufacturer: Wurth Elektronik; Case/Size Code: 1011; DC Resistance: 7.25mΩ; Inductance Tolerance: 20%; Saturation Current: 26.2A; Self Resonant Frequency: 50MHz; Category: Single Coil Power Inductors; Match Code: WE-CHSA; ComponentLink1Description: Website Link; ComponentLink1URL: https://www.we-online.com/redexpert/article/78433390300?ad; ComponentLink2Description: Datasheet Link; ComponentLink2URL: https://www.we-online.com/redexpert/spec/78433390300?ad; Mount: Surface Mount; Operating Temperature Max: 150°C; Operating Temperature Min: -55°C; Packaging: Tape and Reel; Length: 10.6mm; Width: 10.6mm; Height: 11mm; Automotive: Yes; DC Resistance Max: 8.7mΩ; Inductance: 3µH; Rated Current: 11.2A
footprint WE-CHSA_1011
simulation model 1011_78433390300_3u
pins: 1, 2

## 78433390430
designator L?, comment 4.3µH, 9.2A  (value not drawn)
WE-CHSA P Performance SMT High Current Inductor, size 1011, 4.3µH, 9.2A, 13mΩ; Manufacturer Part Number: 78433390430; Manufacturer: Wurth Elektronik; Case/Size Code: 1011; DC Resistance: 10.85mΩ; Inductance Tolerance: 20%; Saturation Current: 20.6A; Self Resonant Frequency: 41MHz; Category: Single Coil Power Inductors; Match Code: WE-CHSA; ComponentLink1Description: Website Link; ComponentLink1URL: https://www.we-online.com/redexpert/article/78433390430?ad; ComponentLink2Description: Datasheet Link; ComponentLink2URL: https://www.we-online.com/redexpert/spec/78433390430?ad; Mount: Surface Mount; Operating Temperature Max: 150°C; Operating Temperature Min: -55°C; Packaging: Tape and Reel; Length: 10.6mm; Width: 10.6mm; Height: 11mm; Automotive: Yes; DC Resistance Max: 13mΩ; Inductance: 4.3µH; Rated Current: 9.2A
footprint WE-CHSA_1011
simulation model 1011_78433390430_4.3u
pins: 1, 2

## 78433390620
designator L?, comment 6.2µH, 7.2A  (value not drawn)
WE-CHSA P Performance SMT High Current Inductor, size 1011, 6.2µH, 7.2A, 19.1mΩ; Manufacturer Part Number: 78433390620; Manufacturer: Wurth Elektronik; Case/Size Code: 1011; DC Resistance: 15.9mΩ; Inductance Tolerance: 20%; Saturation Current: 18A; Self Resonant Frequency: 34MHz; Category: Single Coil Power Inductors; Match Code: WE-CHSA; ComponentLink1Description: Website Link; ComponentLink1URL: https://www.we-online.com/redexpert/article/78433390620?ad; ComponentLink2Description: Datasheet Link; ComponentLink2URL: https://www.we-online.com/redexpert/spec/78433390620?ad; Mount: Surface Mount; Operating Temperature Max: 150°C; Operating Temperature Min: -55°C; Packaging: Tape and Reel; Length: 10.6mm; Width: 10.6mm; Height: 11mm; Automotive: Yes; DC Resistance Max: 19.1mΩ; Inductance: 6.2µH; Rated Current: 7.2A
footprint WE-CHSA_1011
simulation model 1011_78433390620_6.2u
pins: 1, 2

## 78433390820
designator L?, comment 8.2µH, 6.7A  (value not drawn)
WE-CHSA P Performance SMT High Current Inductor, size 1011, 8.2µH, 6.7A, 25.8mΩ; Manufacturer Part Number: 78433390820; Manufacturer: Wurth Elektronik; Case/Size Code: 1011; DC Resistance: 21.5mΩ; Inductance Tolerance: 20%; Saturation Current: 15.6A; Self Resonant Frequency: 30MHz; Category: Single Coil Power Inductors; Match Code: WE-CHSA; ComponentLink1Description: Website Link; ComponentLink1URL: https://www.we-online.com/redexpert/article/78433390820?ad; ComponentLink2Description: Datasheet Link; ComponentLink2URL: https://www.we-online.com/redexpert/spec/78433390820?ad; Mount: Surface Mount; Operating Temperature Max: 150°C; Operating Temperature Min: -55°C; Packaging: Tape and Reel; Length: 10.6mm; Width: 10.6mm; Height: 11mm; Automotive: Yes; DC Resistance Max: 25.8mΩ; Inductance: 8.2µH; Rated Current: 6.7A
footprint WE-CHSA_1011
simulation model 1011_78433390820_8.2u
pins: 1, 2

## 78433391000
designator L?, comment 10µH, 5.6A  (value not drawn)
WE-CHSA P Performance SMT High Current Inductor, size 1011, 10µH, 5.6A, 33.2mΩ; Manufacturer Part Number: 78433391000; Manufacturer: Wurth Elektronik; Case/Size Code: 1011; DC Resistance: 27.7mΩ; Inductance Tolerance: 20%; Saturation Current: 14.4A; Self Resonant Frequency: 28MHz; Category: Single Coil Power Inductors; Match Code: WE-CHSA; ComponentLink1Description: Website Link; ComponentLink1URL: https://www.we-online.com/redexpert/article/78433391000?ad; ComponentLink2Description: Datasheet Link; ComponentLink2URL: https://www.we-online.com/redexpert/spec/78433391000?ad; Mount: Surface Mount; Operating Temperature Max: 150°C; Operating Temperature Min: -55°C; Packaging: Tape and Reel; Length: 10.6mm; Width: 10.6mm; Height: 11mm; Automotive: Yes; DC Resistance Max: 33.2mΩ; Inductance: 10µH; Rated Current: 5.6A
footprint WE-CHSA_1011
simulation model 1011_78433391000_10u
pins: 1, 2

## 78433391500
designator L?, comment 15µH, 4.3A  (value not drawn)
WE-CHSA P Performance SMT High Current Inductor, size 1011, 15µH, 4.3A, 60.9mΩ; Manufacturer Part Number: 78433391500; Manufacturer: Wurth Elektronik; Case/Size Code: 1011; DC Resistance: 50.8mΩ; Inductance Tolerance: 20%; Saturation Current: 11.3A; Self Resonant Frequency: 20MHz; Category: Single Coil Power Inductors; Match Code: WE-CHSA; ComponentLink1Description: Website Link; ComponentLink1URL: https://www.we-online.com/redexpert/article/78433391500?ad; ComponentLink2Description: Datasheet Link; ComponentLink2URL: https://www.we-online.com/redexpert/spec/78433391500?ad; Mount: Surface Mount; Operating Temperature Max: 150°C; Operating Temperature Min: -55°C; Packaging: Tape and Reel; Length: 10.6mm; Width: 10.6mm; Height: 11mm; Automotive: Yes; DC Resistance Max: 60.9mΩ; Inductance: 15µH; Rated Current: 4.3A
footprint WE-CHSA_1011
simulation model 1011_78433391500_15u
pins: 1, 2

## 78433490036
designator L?, comment 0.36µH, 19A  (value not drawn)
WE-CHSA P Performance SMT High Current Inductor, size 8090, 0.36µH, 19A, 2.8mΩ; Manufacturer Part Number: 78433490036; Manufacturer: Wurth Elektronik; Case/Size Code: 8090; DC Resistance: 2.3mΩ; Inductance Tolerance: 20%; Saturation Current: 48.5A; Self Resonant Frequency: 218MHz; Category: Single Coil Power Inductors; Match Code: WE-CHSA; ComponentLink1Description: Website Link; ComponentLink1URL: https://www.we-online.com/redexpert/article/78433490036?ad; ComponentLink2Description: Datasheet Link; ComponentLink2URL: https://www.we-online.com/redexpert/spec/78433490036?ad; Mount: Surface Mount; Operating Temperature Max: 150°C; Operating Temperature Min: -55°C; Packaging: Tape and Reel; Length: 8.1mm; Width: 8.1mm; Height: 9mm; Automotive: Yes; DC Resistance Max: 2.8mΩ; Inductance: 0.36µH; Rated Current: 19A
footprint WE-CHSA_8090
simulation model 8090_78433490036_0.36u
pins: 1, 2

## 78433490056
designator L?, comment 0.56µH, 15.6A  (value not drawn)
WE-CHSA P Performance SMT High Current Inductor, size 8090, 0.56µH, 15.6A, 4.1mΩ; Manufacturer Part Number: 78433490056; Manufacturer: Wurth Elektronik; Case/Size Code: 8090; DC Resistance: 3.45mΩ; Inductance Tolerance: 20%; Saturation Current: 40.5A; Self Resonant Frequency: 184MHz; Category: Single Coil Power Inductors; Match Code: WE-CHSA; ComponentLink1Description: Website Link; ComponentLink1URL: https://www.we-online.com/redexpert/article/78433490056?ad; ComponentLink2Description: Datasheet Link; ComponentLink2URL: https://www.we-online.com/redexpert/spec/78433490056?ad; Mount: Surface Mount; Operating Temperature Max: 150°C; Operating Temperature Min: -55°C; Packaging: Tape and Reel; Length: 8.1mm; Width: 8.1mm; Height: 9mm; Automotive: Yes; DC Resistance Max: 4.1mΩ; Inductance: 0.56µH; Rated Current: 15.6A
footprint WE-CHSA_8090
simulation model 8090_78433490056_0.56u
pins: 1, 2

## 78433490075
designator L?, comment 0.75µH, 12.8A  (value not drawn)
WE-CHSA P Performance SMT High Current Inductor, size 8090, 0.75µH, 12.8A, 5.9mΩ; Manufacturer Part Number: 78433490075; Manufacturer: Wurth Elektronik; Case/Size Code: 8090; DC Resistance: 4.9mΩ; Inductance Tolerance: 20%; Saturation Current: 34.5A; Self Resonant Frequency: 154MHz; Category: Single Coil Power Inductors; Match Code: WE-CHSA; ComponentLink1Description: Website Link; ComponentLink1URL: https://www.we-online.com/redexpert/article/78433490075?ad; ComponentLink2Description: Datasheet Link; ComponentLink2URL: https://www.we-online.com/redexpert/spec/78433490075?ad; Mount: Surface Mount; Operating Temperature Max: 150°C; Operating Temperature Min: -55°C; Packaging: Tape and Reel; Length: 8.1mm; Width: 8.1mm; Height: 9mm; Automotive: Yes; DC Resistance Max: 5.9mΩ; Inductance: 0.75µH; Rated Current: 12.8A
footprint WE-CHSA_8090
simulation model 8090_78433490075_0.75u
pins: 1, 2

## 78433490160
designator L?, comment 1.6µH, 8.4A  (value not drawn)
WE-CHSA P Performance SMT High Current Inductor, size 8090, 1.6µH, 8.4A, 12mΩ; Manufacturer Part Number: 78433490160; Manufacturer: Wurth Elektronik; Case/Size Code: 8090; DC Resistance: 10mΩ; Inductance Tolerance: 20%; Saturation Current: 22.3A; Self Resonant Frequency: 93MHz; Category: Single Coil Power Inductors; Match Code: WE-CHSA; ComponentLink1Description: Website Link; ComponentLink1URL: https://www.we-online.com/redexpert/article/78433490160?ad; ComponentLink2Description: Datasheet Link; ComponentLink2URL: https://www.we-online.com/redexpert/spec/78433490160?ad; Mount: Surface Mount; Operating Temperature Max: 150°C; Operating Temperature Min: -55°C; Packaging: Tape and Reel; Length: 8.1mm; Width: 8.1mm; Height: 9mm; Automotive: Yes; DC Resistance Max: 12mΩ; Inductance: 1.6µH; Rated Current: 8.4A
footprint WE-CHSA_8090
simulation model 8090_78433490160_1.6u
pins: 1, 2